# Altium footprint library Atmel.PcbLib: 27 footprints (part 2 of 2)
Each footprint in its own frame and in the unit in brackets; x right, y up, seen from the top. Pads: shape width x height; smd on the part's side, far side on the other; paste and mask are expansions set on the pad; w line width, h text height; cw(c..) or ccw(c..) is an arc to the next point about the centre after c.
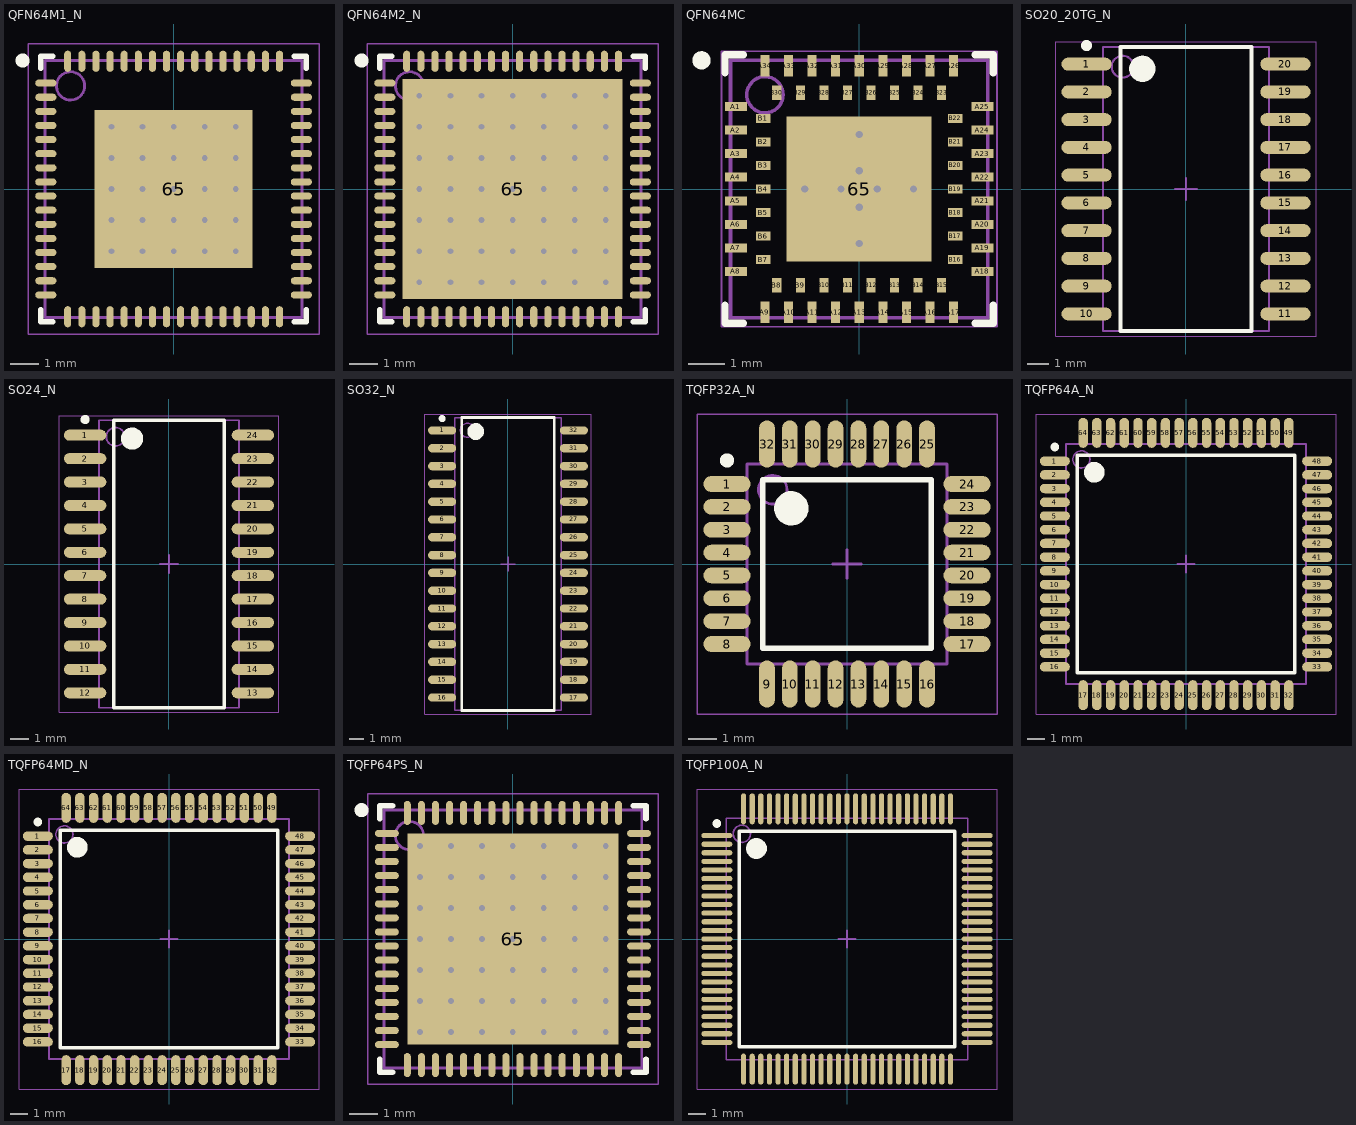
[diagram p1: the footprints below, top view; thin cyan lines are the x and y axes]

## QFN64M1_N [mm] "QFN, 64-Leads, Body 9x9mm, Pitch 0.5mm, Thermal Pad 5.6x5.6mm, IPC Medium Density"
height 1
pads (65):
  oval 0.75x0.25 smd: 1(-4.525,3.75) 2(-4.525,3.25) 3(-4.525,2.75) 4(-4.525,2.25) 5(-4.525,1.75) 6(-4.525,1.25) 7(-4.525,0.75) 8(-4.525,0.25) 9(-4.525,-0.25) 10(-4.525,-0.75) 11(-4.525,-1.25) 12(-4.525,-1.75) 13(-4.525,-2.25) 14(-4.525,-2.75) 15(-4.525,-3.25) 16(-4.525,-3.75) 33(4.525,-3.75) 34(4.525,-3.25) 35(4.525,-2.75) 36(4.525,-2.25) 37(4.525,-1.75) 38(4.525,-1.25) 39(4.525,-0.75) 40(4.525,-0.25) 41(4.525,0.25) 42(4.525,0.75) 43(4.525,1.25) 44(4.525,1.75) 45(4.525,2.25) 46(4.525,2.75) 47(4.525,3.25) 48(4.525,3.75)
  oval 0.25x0.75 smd: 17(-3.75,-4.525) 18(-3.25,-4.525) 19(-2.75,-4.525) 20(-2.25,-4.525) 21(-1.75,-4.525) 22(-1.25,-4.525) 23(-0.75,-4.525) 24(-0.25,-4.525) 25(0.25,-4.525) 26(0.75,-4.525) 27(1.25,-4.525) 28(1.75,-4.525) 29(2.25,-4.525) 30(2.75,-4.525) 31(3.25,-4.525) 32(3.75,-4.525) 49(3.75,4.525) 50(3.25,4.525) 51(2.75,4.525) 52(2.25,4.525) 53(1.75,4.525) 54(1.25,4.525) 55(0.75,4.525) 56(0.25,4.525) 57(-0.25,4.525) 58(-0.75,4.525) 59(-1.25,4.525) 60(-1.75,4.525) 61(-2.25,4.525) 62(-2.75,4.525) 63(-3.25,4.525) 64(-3.75,4.525)
  rect 5.6x5.6 smd: 65(0,0)
via -2.2,2.2 diameter 0.5 hole 0.2
via -1.1,2.2 diameter 0.5 hole 0.2
via 0,2.2 diameter 0.5 hole 0.2
via 1.1,2.2 diameter 0.5 hole 0.2
via 2.2,2.2 diameter 0.5 hole 0.2
via -2.2,1.1 diameter 0.5 hole 0.2
via -1.1,1.1 diameter 0.5 hole 0.2
via 0,1.1 diameter 0.5 hole 0.2
via 1.1,1.1 diameter 0.5 hole 0.2
via 2.2,1.1 diameter 0.5 hole 0.2
via -2.2,0 diameter 0.5 hole 0.2
via -1.1,0 diameter 0.5 hole 0.2
via 0,0 diameter 0.5 hole 0.2
via 1.1,0 diameter 0.5 hole 0.2
via 2.2,0 diameter 0.5 hole 0.2
via -2.2,-1.1 diameter 0.5 hole 0.2
via -1.1,-1.1 diameter 0.5 hole 0.2
via 0,-1.1 diameter 0.5 hole 0.2
via 1.1,-1.1 diameter 0.5 hole 0.2
via 2.2,-1.1 diameter 0.5 hole 0.2
via -2.2,-2.2 diameter 0.5 hole 0.2
via -1.1,-2.2 diameter 0.5 hole 0.2
via 0,-2.2 diameter 0.5 hole 0.2
via 1.1,-2.2 diameter 0.5 hole 0.2
via 2.2,-2.2 diameter 0.5 hole 0.2
Top Overlay:
  circle w0.25: c-5.35,4.55 r0.125
  lines w0.2: -4.7,-4.275 -4.7,-4.7 -4.275,-4.7 ; -4.7,4.275 -4.7,4.7 -4.275,4.7 ; 4.275,-4.7 4.7,-4.7 4.7,-4.275 ; 4.275,4.7 4.7,4.7 4.7,4.275
Mechanical 13:
  circle w0.1: c-3.65,3.65 r0.5
  lines w0.1: -4.55,-4.55 -4.55,4.55 4.55,4.55 4.55,-4.55 -4.55,-4.55
Mechanical 15:
  lines w0.05: -5.15,-5.15 -5.15,5.15 5.15,5.15 5.15,-5.15 -5.15,-5.15
  lines w0.1: -0.5,0 0.5,0 ; 0,-0.5 0,0.5
3D body: height 1, standoff 0, extent -4.55,-4.55 4.55,4.55

## QFN64M2_N [mm] "QFN, 64-Leads, Body 9x9mm, Pitch 0.5mm, Thermal Pad 7.8x7.8mm, IPC Medium Density"
height 1
pads (65):
  oval 0.75x0.25 smd: 1(-4.525,3.75) 2(-4.525,3.25) 3(-4.525,2.75) 4(-4.525,2.25) 5(-4.525,1.75) 6(-4.525,1.25) 7(-4.525,0.75) 8(-4.525,0.25) 9(-4.525,-0.25) 10(-4.525,-0.75) 11(-4.525,-1.25) 12(-4.525,-1.75) 13(-4.525,-2.25) 14(-4.525,-2.75) 15(-4.525,-3.25) 16(-4.525,-3.75) 33(4.525,-3.75) 34(4.525,-3.25) 35(4.525,-2.75) 36(4.525,-2.25) 37(4.525,-1.75) 38(4.525,-1.25) 39(4.525,-0.75) 40(4.525,-0.25) 41(4.525,0.25) 42(4.525,0.75) 43(4.525,1.25) 44(4.525,1.75) 45(4.525,2.25) 46(4.525,2.75) 47(4.525,3.25) 48(4.525,3.75)
  oval 0.25x0.75 smd: 17(-3.75,-4.525) 18(-3.25,-4.525) 19(-2.75,-4.525) 20(-2.25,-4.525) 21(-1.75,-4.525) 22(-1.25,-4.525) 23(-0.75,-4.525) 24(-0.25,-4.525) 25(0.25,-4.525) 26(0.75,-4.525) 27(1.25,-4.525) 28(1.75,-4.525) 29(2.25,-4.525) 30(2.75,-4.525) 31(3.25,-4.525) 32(3.75,-4.525) 49(3.75,4.525) 50(3.25,4.525) 51(2.75,4.525) 52(2.25,4.525) 53(1.75,4.525) 54(1.25,4.525) 55(0.75,4.525) 56(0.25,4.525) 57(-0.25,4.525) 58(-0.75,4.525) 59(-1.25,4.525) 60(-1.75,4.525) 61(-2.25,4.525) 62(-2.75,4.525) 63(-3.25,4.525) 64(-3.75,4.525)
  rect 7.8x7.8 smd: 65(0,0)
via 3.3,-3.3 diameter 0.5 hole 0.2
via 2.2,-3.3 diameter 0.5 hole 0.2
via 1.1,-3.3 diameter 0.5 hole 0.2
via 0,-3.3 diameter 0.5 hole 0.2
via -1.1,-3.3 diameter 0.5 hole 0.2
via -2.2,-3.3 diameter 0.5 hole 0.2
via -3.3,-3.3 diameter 0.5 hole 0.2
via 3.3,-2.2 diameter 0.5 hole 0.2
via 2.2,-2.2 diameter 0.5 hole 0.2
via 1.1,-2.2 diameter 0.5 hole 0.2
via 0,-2.2 diameter 0.5 hole 0.2
via -1.1,-2.2 diameter 0.5 hole 0.2
via -2.2,-2.2 diameter 0.5 hole 0.2
via -3.3,-2.2 diameter 0.5 hole 0.2
via 3.3,-1.1 diameter 0.5 hole 0.2
via 2.2,-1.1 diameter 0.5 hole 0.2
via 1.1,-1.1 diameter 0.5 hole 0.2
via 0,-1.1 diameter 0.5 hole 0.2
via -1.1,-1.1 diameter 0.5 hole 0.2
via -2.2,-1.1 diameter 0.5 hole 0.2
via -3.3,-1.1 diameter 0.5 hole 0.2
via 3.3,0 diameter 0.5 hole 0.2
via 2.2,0 diameter 0.5 hole 0.2
via 1.1,0 diameter 0.5 hole 0.2
via 0,0 diameter 0.5 hole 0.2
via -1.1,0 diameter 0.5 hole 0.2
via -2.2,0 diameter 0.5 hole 0.2
via -3.3,0 diameter 0.5 hole 0.2
via 3.3,1.1 diameter 0.5 hole 0.2
via 2.2,1.1 diameter 0.5 hole 0.2
via 1.1,1.1 diameter 0.5 hole 0.2
via 0,1.1 diameter 0.5 hole 0.2
via -1.1,1.1 diameter 0.5 hole 0.2
via -2.2,1.1 diameter 0.5 hole 0.2
via -3.3,1.1 diameter 0.5 hole 0.2
via 3.3,2.2 diameter 0.5 hole 0.2
via 2.2,2.2 diameter 0.5 hole 0.2
via 1.1,2.2 diameter 0.5 hole 0.2
via 0,2.2 diameter 0.5 hole 0.2
via -1.1,2.2 diameter 0.5 hole 0.2
via -2.2,2.2 diameter 0.5 hole 0.2
via -3.3,2.2 diameter 0.5 hole 0.2
via 3.3,3.3 diameter 0.5 hole 0.2
via 2.2,3.3 diameter 0.5 hole 0.2
via 1.1,3.3 diameter 0.5 hole 0.2
via 0,3.3 diameter 0.5 hole 0.2
via -1.1,3.3 diameter 0.5 hole 0.2
via -2.2,3.3 diameter 0.5 hole 0.2
via -3.3,3.3 diameter 0.5 hole 0.2
Top Overlay:
  circle w0.25: c-5.35,4.55 r0.125
  lines w0.2: -4.7,-4.275 -4.7,-4.7 -4.275,-4.7 ; -4.7,4.275 -4.7,4.7 -4.275,4.7 ; 4.275,-4.7 4.7,-4.7 4.7,-4.275 ; 4.275,4.7 4.7,4.7 4.7,4.275
Mechanical 13:
  circle w0.1: c-3.65,3.65 r0.5
  lines w0.1: -4.55,-4.55 4.55,-4.55 4.55,4.55 -4.55,4.55 -4.55,-4.55
Mechanical 15:
  lines w0.05: -5.15,-5.15 5.15,-5.15 5.15,5.15 -5.15,5.15 -5.15,-5.15
  lines w0.1: -0.5,0 0.5,0 ; 0,-0.5 0,0.5
3D body: height 1, standoff 0, extent -4.55,-4.55 4.55,4.55

## QFN64MC [mm] "QFN, 64-Leads, 2-Rows Staggered, Body 7x7mm, Pitch 0.65mm, Thermal Pad 4x4mm"
height 1
pads (65):
  rect 4x4 smd paste-2 mask+0.051: 65(0,0)
  rect 0.6x0.25 smd paste-0.125 mask+0.051: A1(-3.4,2.275) A2(-3.4,1.625) A3(-3.4,0.975) A4(-3.4,0.325) A5(-3.4,-0.325) A6(-3.4,-0.975) A7(-3.4,-1.625) A8(-3.4,-2.275) A18(3.4,-2.275) A19(3.4,-1.625) A20(3.4,-0.975) A21(3.4,-0.325) A22(3.4,0.325) A23(3.4,0.975) A24(3.4,1.625) A25(3.4,2.275)
  rect 0.25x0.6 smd paste-0.125 mask+0.051: A9(-2.6,-3.4) A10(-1.95,-3.4) A11(-1.3,-3.4) A12(-0.65,-3.4) A13(0,-3.4) A14(0.65,-3.4) A15(1.3,-3.4) A16(1.95,-3.4) A17(2.6,-3.4) A26(2.6,3.4) A27(1.95,3.4) A28(1.3,3.4) A29(0.65,3.4) A30(0,3.4) A31(-0.65,3.4) A32(-1.3,3.4) A33(-1.95,3.4) A34(-2.6,3.4)
  rect 0.4x0.25 smd mask+0.051: B1(-2.65,1.95) B2(-2.65,1.3) B3(-2.65,0.65) B4(-2.65,0) B5(-2.65,-0.65) B6(-2.65,-1.3) B7(-2.65,-1.95) B16(2.65,-1.95) B17(2.65,-1.3) B18(2.65,-0.65) B19(2.65,0) B20(2.65,0.65) B21(2.65,1.3) B22(2.65,1.95)
  rect 0.25x0.4 smd mask+0.051: B8(-2.275,-2.65) B9(-1.625,-2.65) B10(-0.975,-2.65) B11(-0.325,-2.65) B12(0.325,-2.65) B13(0.975,-2.65) B14(1.625,-2.65) B15(2.275,-2.65) B23(2.275,2.65) B24(1.625,2.65) B25(0.975,2.65) B26(0.325,2.65) B27(-0.325,2.65) B28(-0.975,2.65) B29(-1.625,2.65) B30(-2.275,2.65)
via -1.5,0 diameter 0.5 hole 0.2
via 0,-1.5 diameter 0.5 hole 0.2
via 0,1.5 diameter 0.5 hole 0.2
via 1.5,0 diameter 0.5 hole 0.2
via -0.5,0 diameter 0.5 hole 0.2
via 0.5,0 diameter 0.5 hole 0.2
via 0,-0.5 diameter 0.5 hole 0.2
via 0,0.5 diameter 0.5 hole 0.2
Top Overlay:
  circle w0.25: c-4.35,3.55 r0.125
  lines w0.2: -3.7,-3.2 -3.7,-3.7 -3.2,-3.7 ; -3.7,3.2 -3.7,3.7 -3.2,3.7 ; 3.2,-3.7 3.7,-3.7 3.7,-3.2 ; 3.2,3.7 3.7,3.7 3.7,3.2
Top Paste:
  region: -2.725,3.8 -2.725,3.1 -2.475,3.1 -2.475,3.8
  region: -2.075,3.8 -2.075,3.1 -1.825,3.1 -1.825,3.8
  region: -1.425,3.8 -1.425,3.1 -1.175,3.1 -1.175,3.8
  region: -0.775,3.8 -0.775,3.1 -0.525,3.1 -0.525,3.8
  region: -0.125,3.8 -0.125,3.1 0.125,3.1 0.125,3.8
  region: 0.525,3.8 0.525,3.1 0.775,3.1 0.775,3.8
  region: 1.175,3.8 1.175,3.1 1.425,3.1 1.425,3.8
  region: 1.825,3.8 1.825,3.1 2.075,3.1 2.075,3.8
  region: 3.8,2.4 3.1,2.4 3.1,2.15 3.8,2.15
  region: 3.8,1.75 3.1,1.75 3.1,1.5 3.8,1.5
  region: 3.8,1.1 3.1,1.1 3.1,0.85 3.8,0.85
  region: 3.8,0.45 3.1,0.45 3.1,0.2 3.8,0.2
  region: 3.8,-0.2 3.1,-0.2 3.1,-0.45 3.8,-0.45
  region: 3.8,-0.85 3.1,-0.85 3.1,-1.1 3.8,-1.1
  region: 3.8,-1.5 3.1,-1.5 3.1,-1.75 3.8,-1.75
  region: 3.8,-2.15 3.1,-2.15 3.1,-2.4 3.8,-2.4
  region: -2.475,-3.8 -2.475,-3.1 -2.725,-3.1 -2.725,-3.8
  region: -1.825,-3.8 -1.825,-3.1 -2.075,-3.1 -2.075,-3.8
  region: -1.175,-3.8 -1.175,-3.1 -1.425,-3.1 -1.425,-3.8
  region: -0.525,-3.8 -0.525,-3.1 -0.775,-3.1 -0.775,-3.8
  region: 0.125,-3.8 0.125,-3.1 -0.125,-3.1 -0.125,-3.8
  region: 0.775,-3.8 0.775,-3.1 0.525,-3.1 0.525,-3.8
  region: 1.425,-3.8 1.425,-3.1 1.175,-3.1 1.175,-3.8
  region: 2.075,-3.8 2.075,-3.1 1.825,-3.1 1.825,-3.8
  rectangle: -3.8,-2.4 -3.1,-2.15
  rectangle: -3.8,-1.75 -3.1,-1.5
  rectangle: -3.8,-1.1 -3.1,-0.85
  rectangle: -3.8,-0.45 -3.1,-0.2
  rectangle: -3.8,0.2 -3.1,0.45
  rectangle: -3.8,0.85 -3.1,1.1
  rectangle: -3.8,1.5 -3.1,1.75
  rectangle: -3.8,2.15 -3.1,2.4
  rectangle: 0.1,0.1 1.9,1.9
  region: -0.1,1.9 -1.9,1.9 -1.9,0.1 -0.1,0.1
  region: -0.1,-0.1 -1.9,-0.1 -1.9,-1.9 -0.1,-1.9
  rectangle: 0.1,-1.9 1.9,-0.1
  region: 2.725,-3.8 2.725,-3.1 2.475,-3.1 2.475,-3.8
  region: 2.475,3.8 2.475,3.1 2.725,3.1 2.725,3.8
Mechanical 13:
  circle w0.1: c-2.6,2.6 r0.5
  lines w0.1: -3.55,-3.55 -3.55,3.55 3.55,3.55 3.55,-3.55 -3.55,-3.55
Mechanical 15:
  lines w0.05: -3.8,-3.8 -3.8,3.8 3.8,3.8 3.8,-3.8 -3.8,-3.8
  lines w0.1: -0.5,0 0.5,0 ; 0,-0.5 0,0.5
3D body: height 1, standoff 0, extent -3.55,-3.55 3.55,3.55

## SO20_20TG_N [mm] "SOIC, 20-Leads, Body 12.8x7.5mm, Pitch 1.27mm, IPC Medium Density"
height 2.65
pads (20):
  oval 2.3x0.6 smd: 1(-4.55,5.715) 2(-4.55,4.445) 3(-4.55,3.175) 4(-4.55,1.905) 5(-4.55,0.635) 6(-4.55,-0.635) 7(-4.55,-1.905) 8(-4.55,-3.175) 9(-4.55,-4.445) 10(-4.55,-5.715) 11(4.55,-5.715) 12(4.55,-4.445) 13(4.55,-3.175) 14(4.55,-1.905) 15(4.55,-0.635) 16(4.55,0.635) 17(4.55,1.905) 18(4.55,3.175) 19(4.55,4.445) 20(4.55,5.715)
Top Overlay:
  circle w0.25: c-4.55,6.565 r0.125
  circle w0.6: c-2,5.5 r0.3
  lines w0.2: -3,-6.5 -3,6.5 3,6.5 3,-6.5 -3,-6.5
Mechanical 13:
  circle w0.1: c-2.9,5.6 r0.5
  lines w0.1: -3.8,-6.5 -3.8,6.5 3.8,6.5 3.8,-6.5 -3.8,-6.5
Mechanical 15:
  lines w0.05: -5.95,-6.75 -5.95,6.75 5.95,6.75 5.95,-6.75 -5.95,-6.75
  lines w0.1: -0.5,0 0.5,0 ; 0,-0.5 0,0.5
3D body: height 2.65, standoff 0.1, extent -3.8,-6.5 3.8,6.5

## SO24_N [mm] "SOIC, 24-Leads, Body 15.4x7.5mm, Pitch 1.27mm, IPC Medium Density"
height 2.65
pads (24):
  oval 2.3x0.6 smd: 1(-4.55,6.985) 2(-4.55,5.715) 3(-4.55,4.445) 4(-4.55,3.175) 5(-4.55,1.905) 6(-4.55,0.635) 7(-4.55,-0.635) 8(-4.55,-1.905) 9(-4.55,-3.175) 10(-4.55,-4.445) 11(-4.55,-5.715) 12(-4.55,-6.985) 13(4.55,-6.985) 14(4.55,-5.715) 15(4.55,-4.445) 16(4.55,-3.175) 17(4.55,-1.905) 18(4.55,-0.635) 19(4.55,0.635) 20(4.55,1.905) 21(4.55,3.175) 22(4.55,4.445) 23(4.55,5.715) 24(4.55,6.985)
Top Overlay:
  circle w0.6: c-2,6.8 r0.3
  circle w0.25: c-4.55,7.835 r0.125
  lines w0.2: -3,-7.8 3,-7.8 3,7.8 -3,7.8 -3,-7.8
Mechanical 13:
  circle w0.1: c-2.9,6.9 r0.5
  lines w0.1: -3.8,-7.8 3.8,-7.8 3.8,7.8 -3.8,7.8 -3.8,-7.8
Mechanical 15:
  lines w0.05: -5.95,-8.05 5.95,-8.05 5.95,8.05 -5.95,8.05 -5.95,-8.05
  lines w0.1: -0.5,0 0.5,0 ; 0,-0.5 0,0.5
3D body: height 2.65, standoff 0.1, extent -3.8,-7.8 3.8,7.8

## SO32_N [mm] "SOIC, 32-Leads, Body 20.8x7.5mm, Pitch 1.27mm, IPC Medium Density"
height 2.54
pads (32):
  oval 2x0.6 smd: 1(-4.7,9.525) 2(-4.7,8.255) 3(-4.7,6.985) 4(-4.7,5.715) 5(-4.7,4.445) 6(-4.7,3.175) 7(-4.7,1.905) 8(-4.7,0.635) 9(-4.7,-0.635) 10(-4.7,-1.905) 11(-4.7,-3.175) 12(-4.7,-4.445) 13(-4.7,-5.715) 14(-4.7,-6.985) 15(-4.7,-8.255) 16(-4.7,-9.525) 17(4.7,-9.525) 18(4.7,-8.255) 19(4.7,-6.985) 20(4.7,-5.715) 21(4.7,-4.445) 22(4.7,-3.175) 23(4.7,-1.905) 24(4.7,-0.635) 25(4.7,0.635) 26(4.7,1.905) 27(4.7,3.175) 28(4.7,4.445) 29(4.7,5.715) 30(4.7,6.985) 31(4.7,8.255) 32(4.7,9.525)
Top Overlay:
  circle w0.25: c-4.7,10.375 r0.125
  circle w0.6: c-2.3,9.45 r0.3
  lines w0.2: -3.3,-10.45 -3.3,10.45 3.3,10.45 3.3,-10.45 -3.3,-10.45
Mechanical 13:
  circle w0.1: c-2.9,9.54 r0.5
  lines w0.1: -3.8,-10.44 -3.8,10.44 3.8,10.44 3.8,-10.44 -3.8,-10.44
Mechanical 15:
  lines w0.05: -5.95,-10.7 -5.95,10.7 5.95,10.7 5.95,-10.7 -5.95,-10.7
  lines w0.1: -0.5,0 0.5,0 ; 0,-0.5 0,0.5
3D body: height 2.54, standoff 0.1, extent -3.8,-10.44 3.8,10.44

## TQFP32A_N [mm] "Thin QFP, 32-Leads, Body 7x7mm, Pitch 0.8mm, IPC Medium Density"
height 1.2
pads (32):
  oval 1.65x0.55 smd: 1(-4.2,2.8) 2(-4.2,2) 3(-4.2,1.2) 4(-4.2,0.4) 5(-4.2,-0.4) 6(-4.2,-1.2) 7(-4.2,-2) 8(-4.2,-2.8) 17(4.2,-2.8) 18(4.2,-2) 19(4.2,-1.2) 20(4.2,-0.4) 21(4.2,0.4) 22(4.2,1.2) 23(4.2,2) 24(4.2,2.8)
  oval 0.55x1.65 smd: 9(-2.8,-4.2) 10(-2,-4.2) 11(-1.2,-4.2) 12(-0.4,-4.2) 13(0.4,-4.2) 14(1.2,-4.2) 15(2,-4.2) 16(2.8,-4.2) 25(2.8,4.2) 26(2,4.2) 27(1.2,4.2) 28(0.4,4.2) 29(-0.4,4.2) 30(-1.2,4.2) 31(-2,4.2) 32(-2.8,4.2)
Top Overlay:
  circle w0.25: c-4.2,3.625 r0.125
  circle w0.6: c-1.95,1.95 r0.3
  lines w0.2: -2.95,-2.95 -2.95,2.95 2.95,2.95 2.95,-2.95 -2.95,-2.95
Mechanical 13:
  circle w0.1: c-2.6,2.6 r0.5
  lines w0.1: -3.5,-3.5 -3.5,3.5 3.5,3.5 3.5,-3.5 -3.5,-3.5
Mechanical 15:
  lines w0.05: -5.25,-5.25 -5.25,5.25 5.25,5.25 5.25,-5.25 -5.25,-5.25
  lines w0.1: -0.5,0 0.5,0 ; 0,-0.5 0,0.5
3D body: height 1.2, standoff 0, extent -3.5,-3.5 3.5,3.5

## TQFP64A_N [mm] "Thin QFP, 64-Leads, Body 14x14mm, Pitch 0.8mm, IPC Medium Density"
height 1.2
pads (64):
  oval 1.75x0.55 smd: 1(-7.65,6) 2(-7.65,5.2) 3(-7.65,4.4) 4(-7.65,3.6) 5(-7.65,2.8) 6(-7.65,2) 7(-7.65,1.2) 8(-7.65,0.4) 9(-7.65,-0.4) 10(-7.65,-1.2) 11(-7.65,-2) 12(-7.65,-2.8) 13(-7.65,-3.6) 14(-7.65,-4.4) 15(-7.65,-5.2) 16(-7.65,-6) 33(7.65,-6) 34(7.65,-5.2) 35(7.65,-4.4) 36(7.65,-3.6) 37(7.65,-2.8) 38(7.65,-2) 39(7.65,-1.2) 40(7.65,-0.4) 41(7.65,0.4) 42(7.65,1.2) 43(7.65,2) 44(7.65,2.8) 45(7.65,3.6) 46(7.65,4.4) 47(7.65,5.2) 48(7.65,6)
  oval 0.55x1.75 smd: 17(-6,-7.65) 18(-5.2,-7.65) 19(-4.4,-7.65) 20(-3.6,-7.65) 21(-2.8,-7.65) 22(-2,-7.65) 23(-1.2,-7.65) 24(-0.4,-7.65) 25(0.4,-7.65) 26(1.2,-7.65) 27(2,-7.65) 28(2.8,-7.65) 29(3.6,-7.65) 30(4.4,-7.65) 31(5.2,-7.65) 32(6,-7.65) 49(6,7.65) 50(5.2,7.65) 51(4.4,7.65) 52(3.6,7.65) 53(2.8,7.65) 54(2,7.65) 55(1.2,7.65) 56(0.4,7.65) 57(-0.4,7.65) 58(-1.2,7.65) 59(-2,7.65) 60(-2.8,7.65) 61(-3.6,7.65) 62(-4.4,7.65) 63(-5.2,7.65) 64(-6,7.65)
Top Overlay:
  circle w0.25: c-7.65,6.825 r0.125
  circle w0.6: c-5.35,5.35 r0.3
  lines w0.2: -6.35,-6.35 -6.35,6.35 6.35,6.35 6.35,-6.35 -6.35,-6.35
Mechanical 13:
  circle w0.1: c-6.1,6.1 r0.5
  lines w0.1: -7,-7 -7,7 7,7 7,-7 -7,-7
Mechanical 15:
  lines w0.05: -8.75,-8.75 -8.75,8.75 8.75,8.75 8.75,-8.75 -8.75,-8.75
  lines w0.1: -0.5,0 0.5,0 ; 0,-0.5 0,0.5
3D body: height 1.2, standoff 0, extent -7,-7 7,7

## TQFP64MD_N [mm] "Thin QFP, 64-Leads, Body 14x14mm, Pitch 0.8mm, IPC Medium Density"
height 1.2
pads (64):
  oval 1.75x0.55 smd: 1(-7.65,6) 2(-7.65,5.2) 3(-7.65,4.4) 4(-7.65,3.6) 5(-7.65,2.8) 6(-7.65,2) 7(-7.65,1.2) 8(-7.65,0.4) 9(-7.65,-0.4) 10(-7.65,-1.2) 11(-7.65,-2) 12(-7.65,-2.8) 13(-7.65,-3.6) 14(-7.65,-4.4) 15(-7.65,-5.2) 16(-7.65,-6) 33(7.65,-6) 34(7.65,-5.2) 35(7.65,-4.4) 36(7.65,-3.6) 37(7.65,-2.8) 38(7.65,-2) 39(7.65,-1.2) 40(7.65,-0.4) 41(7.65,0.4) 42(7.65,1.2) 43(7.65,2) 44(7.65,2.8) 45(7.65,3.6) 46(7.65,4.4) 47(7.65,5.2) 48(7.65,6)
  oval 0.55x1.75 smd: 17(-6,-7.65) 18(-5.2,-7.65) 19(-4.4,-7.65) 20(-3.6,-7.65) 21(-2.8,-7.65) 22(-2,-7.65) 23(-1.2,-7.65) 24(-0.4,-7.65) 25(0.4,-7.65) 26(1.2,-7.65) 27(2,-7.65) 28(2.8,-7.65) 29(3.6,-7.65) 30(4.4,-7.65) 31(5.2,-7.65) 32(6,-7.65) 49(6,7.65) 50(5.2,7.65) 51(4.4,7.65) 52(3.6,7.65) 53(2.8,7.65) 54(2,7.65) 55(1.2,7.65) 56(0.4,7.65) 57(-0.4,7.65) 58(-1.2,7.65) 59(-2,7.65) 60(-2.8,7.65) 61(-3.6,7.65) 62(-4.4,7.65) 63(-5.2,7.65) 64(-6,7.65)
Top Overlay:
  circle w0.25: c-7.65,6.825 r0.125
  circle w0.6: c-5.35,5.35 r0.3
  lines w0.2: -6.35,-6.35 -6.35,6.35 6.35,6.35 6.35,-6.35 -6.35,-6.35
Mechanical 13:
  circle w0.1: c-6.1,6.1 r0.5
  lines w0.1: -7,-7 -7,7 7,7 7,-7 -7,-7
Mechanical 15:
  lines w0.05: -8.75,-8.75 -8.75,8.75 8.75,8.75 8.75,-8.75 -8.75,-8.75
  lines w0.1: -0.5,0 0.5,0 ; 0,-0.5 0,0.5
3D body: height 1.2, standoff 0, extent -7,-7 7,7

## TQFP64PS_N [mm] "QFN, 64-Leads, Body 9x9mm, Pitch 0.5mm, Thermal Pad 7.5x7.5mm, IPC Medium Density"
height 1
pads (65):
  oval 0.85x0.25 smd: 1(-4.475,3.75) 2(-4.475,3.25) 3(-4.475,2.75) 4(-4.475,2.25) 5(-4.475,1.75) 6(-4.475,1.25) 7(-4.475,0.75) 8(-4.475,0.25) 9(-4.475,-0.25) 10(-4.475,-0.75) 11(-4.475,-1.25) 12(-4.475,-1.75) 13(-4.475,-2.25) 14(-4.475,-2.75) 15(-4.475,-3.25) 16(-4.475,-3.75) 33(4.475,-3.75) 34(4.475,-3.25) 35(4.475,-2.75) 36(4.475,-2.25) 37(4.475,-1.75) 38(4.475,-1.25) 39(4.475,-0.75) 40(4.475,-0.25) 41(4.475,0.25) 42(4.475,0.75) 43(4.475,1.25) 44(4.475,1.75) 45(4.475,2.25) 46(4.475,2.75) 47(4.475,3.25) 48(4.475,3.75)
  oval 0.25x0.85 smd: 17(-3.75,-4.475) 18(-3.25,-4.475) 19(-2.75,-4.475) 20(-2.25,-4.475) 21(-1.75,-4.475) 22(-1.25,-4.475) 23(-0.75,-4.475) 24(-0.25,-4.475) 25(0.25,-4.475) 26(0.75,-4.475) 27(1.25,-4.475) 28(1.75,-4.475) 29(2.25,-4.475) 30(2.75,-4.475) 31(3.25,-4.475) 32(3.75,-4.475) 49(3.75,4.475) 50(3.25,4.475) 51(2.75,4.475) 52(2.25,4.475) 53(1.75,4.475) 54(1.25,4.475) 55(0.75,4.475) 56(0.25,4.475) 57(-0.25,4.475) 58(-0.75,4.475) 59(-1.25,4.475) 60(-1.75,4.475) 61(-2.25,4.475) 62(-2.75,4.475) 63(-3.25,4.475) 64(-3.75,4.475)
  rect 7.5x7.5 smd: 65(0,0)
via 3.3,-3.3 diameter 0.5 hole 0.2
via 2.2,-3.3 diameter 0.5 hole 0.2
via 1.1,-3.3 diameter 0.5 hole 0.2
via 0,-3.3 diameter 0.5 hole 0.2
via -1.1,-3.3 diameter 0.5 hole 0.2
via -2.2,-3.3 diameter 0.5 hole 0.2
via -3.3,-3.3 diameter 0.5 hole 0.2
via 3.3,-2.2 diameter 0.5 hole 0.2
via 2.2,-2.2 diameter 0.5 hole 0.2
via 1.1,-2.2 diameter 0.5 hole 0.2
via 0,-2.2 diameter 0.5 hole 0.2
via -1.1,-2.2 diameter 0.5 hole 0.2
via -2.2,-2.2 diameter 0.5 hole 0.2
via -3.3,-2.2 diameter 0.5 hole 0.2
via 3.3,-1.1 diameter 0.5 hole 0.2
via 2.2,-1.1 diameter 0.5 hole 0.2
via 1.1,-1.1 diameter 0.5 hole 0.2
via 0,-1.1 diameter 0.5 hole 0.2
via -1.1,-1.1 diameter 0.5 hole 0.2
via -2.2,-1.1 diameter 0.5 hole 0.2
via -3.3,-1.1 diameter 0.5 hole 0.2
via 3.3,0 diameter 0.5 hole 0.2
via 2.2,0 diameter 0.5 hole 0.2
via 1.1,0 diameter 0.5 hole 0.2
via 0,0 diameter 0.5 hole 0.2
via -1.1,0 diameter 0.5 hole 0.2
via -2.2,0 diameter 0.5 hole 0.2
via -3.3,0 diameter 0.5 hole 0.2
via 3.3,1.1 diameter 0.5 hole 0.2
via 2.2,1.1 diameter 0.5 hole 0.2
via 1.1,1.1 diameter 0.5 hole 0.2
via 0,1.1 diameter 0.5 hole 0.2
via -1.1,1.1 diameter 0.5 hole 0.2
via -2.2,1.1 diameter 0.5 hole 0.2
via -3.3,1.1 diameter 0.5 hole 0.2
via 3.3,2.2 diameter 0.5 hole 0.2
via 2.2,2.2 diameter 0.5 hole 0.2
via 1.1,2.2 diameter 0.5 hole 0.2
via 0,2.2 diameter 0.5 hole 0.2
via -1.1,2.2 diameter 0.5 hole 0.2
via -2.2,2.2 diameter 0.5 hole 0.2
via -3.3,2.2 diameter 0.5 hole 0.2
via 3.3,3.3 diameter 0.5 hole 0.2
via 2.2,3.3 diameter 0.5 hole 0.2
via 1.1,3.3 diameter 0.5 hole 0.2
via 0,3.3 diameter 0.5 hole 0.2
via -1.1,3.3 diameter 0.5 hole 0.2
via -2.2,3.3 diameter 0.5 hole 0.2
via -3.3,3.3 diameter 0.5 hole 0.2
Top Overlay:
  circle w0.25: c-5.375,4.575 r0.125
  lines w0.2: -4.725,-4.275 -4.725,-4.725 -4.275,-4.725 ; -4.725,4.275 -4.725,4.725 -4.275,4.725 ; 4.275,-4.725 4.725,-4.725 4.725,-4.275 ; 4.275,4.725 4.725,4.725 4.725,4.275
Mechanical 13:
  circle w0.1: c-3.675,3.675 r0.5
  lines w0.1: -4.575,-4.575 4.575,-4.575 4.575,4.575 -4.575,4.575 -4.575,-4.575
Mechanical 15:
  lines w0.05: -5.15,-5.15 5.15,-5.15 5.15,5.15 -5.15,5.15 -5.15,-5.15
  lines w0.1: -0.5,0 0.5,0 ; 0,-0.5 0,0.5
3D body: height 1, standoff 0, extent -4.575,-4.575 4.575,4.575

## TQFP100A_N [mm] "Thin QFP, 100-Leads, Body 14x14mm, Pitch 0.5mm, IPC Medium Density"
height 1.2
pads (100):
  oval 1.8x0.3 smd: 1(-7.55,6) 2(-7.55,5.5) 3(-7.55,5) 4(-7.55,4.5) 5(-7.55,4) 6(-7.55,3.5) 7(-7.55,3) 8(-7.55,2.5) 9(-7.55,2) 10(-7.55,1.5) 11(-7.55,1) 12(-7.55,0.5) 13(-7.55,0) 14(-7.55,-0.5) 15(-7.55,-1) 16(-7.55,-1.5) 17(-7.55,-2) 18(-7.55,-2.5) 19(-7.55,-3) 20(-7.55,-3.5) 21(-7.55,-4) 22(-7.55,-4.5) 23(-7.55,-5) 24(-7.55,-5.5) 25(-7.55,-6) 51(7.55,-6) 52(7.55,-5.5) 53(7.55,-5) 54(7.55,-4.5) 55(7.55,-4) 56(7.55,-3.5) 57(7.55,-3) 58(7.55,-2.5) 59(7.55,-2) 60(7.55,-1.5) 61(7.55,-1) 62(7.55,-0.5) 63(7.55,0) 64(7.55,0.5) 65(7.55,1) 66(7.55,1.5) 67(7.55,2) 68(7.55,2.5) 69(7.55,3) 70(7.55,3.5) 71(7.55,4) 72(7.55,4.5) 73(7.55,5) 74(7.55,5.5) 75(7.55,6)
  oval 0.3x1.8 smd: 26(-6,-7.55) 27(-5.5,-7.55) 28(-5,-7.55) 29(-4.5,-7.55) 30(-4,-7.55) 31(-3.5,-7.55) 32(-3,-7.55) 33(-2.5,-7.55) 34(-2,-7.55) 35(-1.5,-7.55) 36(-1,-7.55) 37(-0.5,-7.55) 38(0,-7.55) 39(0.5,-7.55) 40(1,-7.55) 41(1.5,-7.55) 42(2,-7.55) 43(2.5,-7.55) 44(3,-7.55) 45(3.5,-7.55) 46(4,-7.55) 47(4.5,-7.55) 48(5,-7.55) 49(5.5,-7.55) 50(6,-7.55) 76(6,7.55) 77(5.5,7.55) 78(5,7.55) 79(4.5,7.55) 80(4,7.55) 81(3.5,7.55) 82(3,7.55) 83(2.5,7.55) 84(2,7.55) 85(1.5,7.55) 86(1,7.55) 87(0.5,7.55) 88(0,7.55) 89(-0.5,7.55) 90(-1,7.55) 91(-1.5,7.55) 92(-2,7.55) 93(-2.5,7.55) 94(-3,7.55) 95(-3.5,7.55) 96(-4,7.55) 97(-4.5,7.55) 98(-5,7.55) 99(-5.5,7.55) 100(-6,7.55)
Top Overlay:
  circle w0.25: c-7.55,6.7 r0.125
  circle w0.6: c-5.25,5.25 r0.3
  lines w0.2: -6.25,-6.25 -6.25,6.25 6.25,6.25 6.25,-6.25 -6.25,-6.25
Mechanical 13:
  circle w0.1: c-6.1,6.1 r0.5
  lines w0.1: -7,-7 -7,7 7,7 7,-7 -7,-7
Mechanical 15:
  lines w0.05: -8.7,-8.7 -8.7,8.7 8.7,8.7 8.7,-8.7 -8.7,-8.7
  lines w0.1: -0.5,0 0.5,0 ; 0,-0.5 0,0.5
3D body: height 1.2, standoff 0, extent -7,-7 7,7